# Altium footprint library DMA56405.PcbLib: 2 footprints
Each footprint in its own frame and in the unit in brackets; x right, y up, seen from the top. Pads: shape width x height; smd on the part's side, far side on the other; paste and mask are expansions set on the pad; w line width, h text height; cw(c..) or ccw(c..) is an arc to the next point about the centre after c.
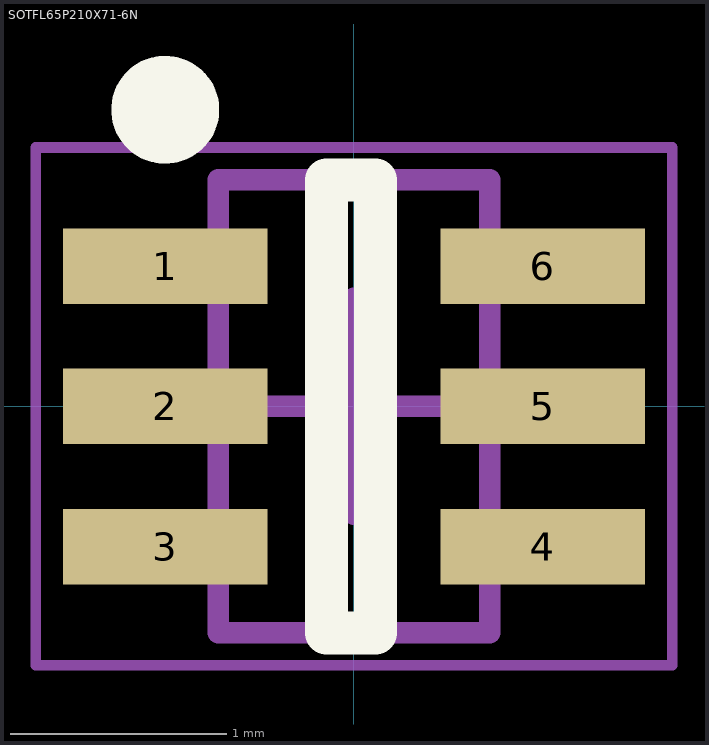
[diagram p0: the footprints below, top view; thin cyan lines are the x and y axes]

## DMA56405 [mm]

## SOTFL65P210X71-6N [mm] "SOTFL, 6-Leads, Body 2.00x2.10mm, Pitch 0.65mm, IPC Medium Density"
height 0.71
pads (6):
  rect 0.95x0.35 smd: 1(-0.875,0.65) 2(-0.875,0) 3(-0.875,-0.65) 4(0.875,-0.65) 5(0.875,0) 6(0.875,0.65)
Top Overlay:
  circle w0.25: c-0.875,1.375 r0.125
  lines w0.2: -0.127,-1.05 -0.127,1.05 0.1,1.05 0.1,-1.05 -0.127,-1.05
Mechanical 13:
  lines w0.1: -0.63,-1.05 0.63,-1.05 0.63,1.05 -0.63,1.05 -0.63,-1.05
Mechanical 15:
  lines w0.05: -1.475,-1.2 1.475,-1.2 1.475,1.2 -1.475,1.2 -1.475,-1.2
  lines w0.1: -0.5,0 0.5,0 ; 0,-0.5 0,0.5
3D body: height 0.71, standoff 0, extent -0.63,-1.05 0.63,1.05